# EAGLE library part PROXIMITY-LIGHT-SENSOR_VCNL4010 (library FlashPCB_Sensors)
IR-EMIT/PROX/ABIENT-SENSOR - Fully integrated proximity and ambient light sensor Technical Specifications: 16-bit resolution for Prox detection Flicker Noise Rejection: 100Hz to 120Hz Component Search: VCNL4010-GS08 <https://www.flashpcb.com/components> Datasheet: Fully Integrated Proximity and Ambient Light Sensor With Infrared Emitter, I2C Interface, and Interrupt Function <https://www.vishay.com/docs/83462/vcnl4010.pdf>
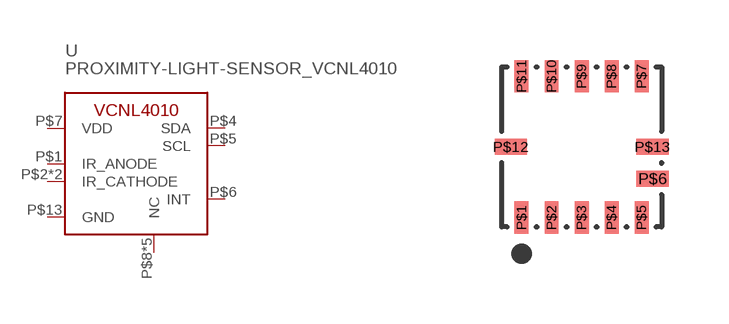
[diagram p19: symbol with the pads of 13-WQFN; footprint 13-WQFN]

Designator prefix U

## PROXIMITY-LIGHT-SENSOR_VCNL4010  [13-WQFN]
P$1  IR_ANODE
P$2  IR_CATHODE
P$3  IR_CATHODE
P$4  SDA
P$5  SCL
P$6  INT
P$7  VDD
P$8  NC
P$9  NC
P$10  NC
P$11  NC
P$12  NC
P$13  GND

## Footprint 13-WQFN (pad centres in mm)
smd 0.35 x 0.805: P$1 -1.5,-1.768; P$2 -0.75,-1.768; P$3 0,-1.768; P$4 0.75,-1.768; P$5 1.5,-1.768; P$7 1.5,1.768; P$8 0.75,1.768; P$9 0,1.768; P$10 -0.75,1.768; P$11 -1.5,1.768
smd 0.805 x 0.4: P$6 1.772,-0.8; P$12 -1.772,0; P$13 1.772,0